# EAGLE library part TPS2553 (library joule_shield)
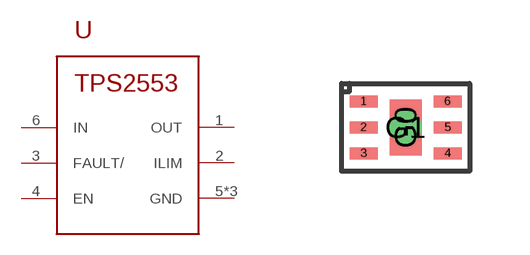
[diagram p6: symbol with the pads of PWSON-6; footprint PWSON-6]

Designator prefix -

## TPS2553PWSON-6  [PWSON-6]
1  OUT
2  ILIM
3  FAULT/
4  EN
5  GND
6  IN
G0  GND
G1  GND

## Footprint PWSON-6 (pad centres in mm)
smd 0.7 x 0.3: 1 -1.05,0.65; 2 -1.05,0; 3 -1.05,-0.65; 4 1.05,-0.65; 5 1.05,0; 6 1.05,0.65
smd 0.8 x 1.4: G0 0,0
drill 0.305 pad 0.6: G1 0,0